# EAGLE library part BT900 (library lib_stankus)
BT900
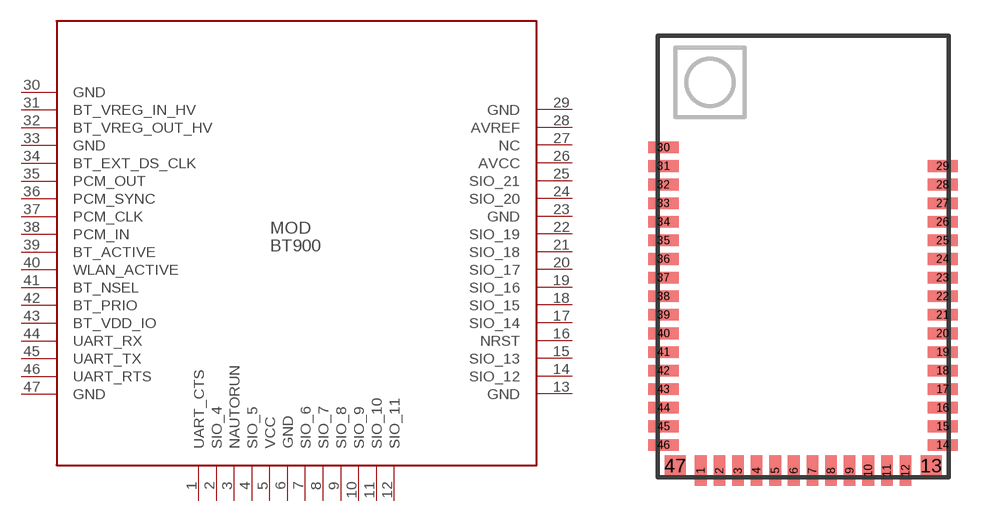
[diagram p99: symbol with the pads of BT900SC; footprint BT900SC]

Designator prefix MOD

## BT900-SC  [BT900SC]
1  UART_CTS  pas
2  SIO_4  pas
3  NAUTORUN  pas
4  SIO_5  pas
5  VCC  pas
6  GND  pas
7  SIO_6  pas
8  SIO_7  pas
9  SIO_8  pas
10  SIO_9  pas
11  SIO_10  pas
12  SIO_11  pas
13  GND  pas
14  SIO_12  pas
15  SIO_13  pas
16  NRST  pas
17  SIO_14  pas
18  SIO_15  pas
19  SIO_16  pas
20  SIO_17  pas
21  SIO_18  pas
22  SIO_19  pas
23  GND  pas
24  SIO_20  pas
25  SIO_21  pas
26  AVCC  pas
27  NC  nc
28  AVREF  pas
29  GND  pas
30  GND  pas
31  BT_VREG_IN_HV  pas
32  BT_VREG_OUT_HV  pas
33  GND  pas
34  BT_EXT_DS_CLK  pas
35  PCM_OUT  pas
36  PCM_SYNC  pas
37  PCM_CLK  pas
38  PCM_IN  pas
39  BT_ACTIVE  pas
40  WLAN_ACTIVE  pas
41  BT_NSEL  pas
42  BT_PRIO  pas
43  BT_VDD_IO  pas
44  UART_RX  pas
45  UART_TX  pas
46  UART_RTS  pas
47  GND  pas

## Footprint BT900SC (pad centres in mm)
BT900SC
smd 0.5 x 1.3: 1 -4.4,-9.2; 2 -3.6,-9.2; 3 -2.8,-9.2; 4 -2,-9.2; 5 -1.2,-9.2; 6 -0.4,-9.2; 7 0.4,-9.2; 8 1.2,-9.2; 9 2,-9.2; 10 2.8,-9.2; 11 3.6,-9.2; 12 4.4,-9.2
smd 0.9 x 0.9: 13 5.5,-9; 47 -5.5,-9
smd 1.3 x 0.5: 14 6,-8.1; 15 6,-7.3; 16 6,-6.5; 17 6,-5.7; 18 6,-4.9; 19 6,-4.1; 20 6,-3.3; 21 6,-2.5; 22 6,-1.7; 23 6,-0.9; 24 6,-0.1; 25 6,0.7; 26 6,1.5; 27 6,2.3; 28 6,3.1; 29 6,3.9; 30 -6,4.7; 31 -6,3.9; 32 -6,3.1; 33 -6,2.3; 34 -6,1.5; 35 -6,0.7; 36 -6,-0.1; 37 -6,-0.9; 38 -6,-1.7; 39 -6,-2.5; 40 -6,-3.3; 41 -6,-4.1; 42 -6,-4.9; 43 -6,-5.7; 44 -6,-6.5; 45 -6,-7.3; 46 -6,-8.1